# Altium integrated library Motorola Logic Buffer Line Driver.IntLib: 67 symbols (part 2 of 2)
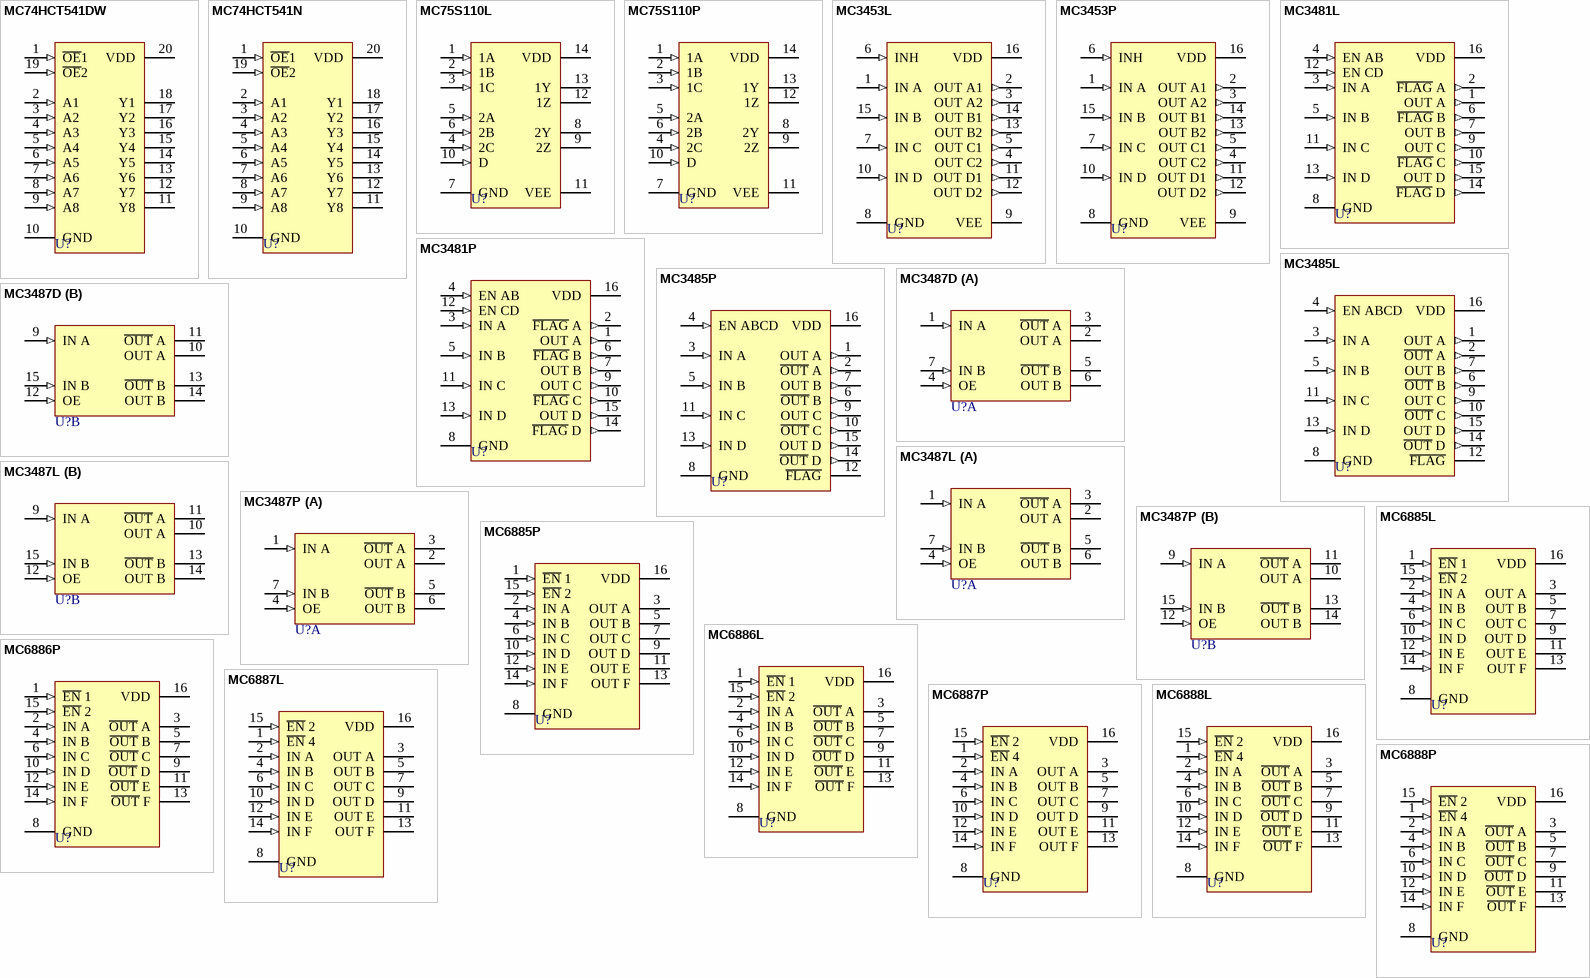
[diagram p3: symbols MC74HCT541DW to MC6888P]

## MC3481L
designator U?
Quad Single-Ended Line Driver; Published: 17-Jul-2002; LatestRevisionDate: 06-Jun-2005; LatestRevisionNote: Stylized 3D Model Added; DatasheetVersion: 1988; PackageReference: 620-10; Publisher: Altium Limited; PackageDescription: DIP; 16 Leads; Row Spacing 7.62 mm; Pitch 2.54 mm; ComponentLink1Description: Manufacturer Link; ComponentLink1URL: http://www.onsemi.com/site/products/parametrics/0,4446,178,00.html
footprint 620-10 (DIP; 16 Leads; Row Spacing 7.62 mm; Pitch 2.54 mm)
3D model 620-10 (DIP; 16 Leads; Row Spacing 7.62 mm; Pitch 2.54 mm)
pins: 1 OUT A (out), 2 ~{FLAG} A (out), 3 IN A (in), 4 EN AB (in), 5 IN B (in), 6 ~{FLAG} B (out), 7 OUT B (out), 8 GND (power), 9 OUT C (out), 10 ~{FLAG} C (out), 11 IN C (in), 12 EN CD (in), 13 IN D (in), 14 ~{FLAG} D (out), 15 OUT D (out), 16 VDD (power)

## MC3481P
designator U?
Quad Single-Ended Line Driver; Published: 17-Jul-2002; LatestRevisionDate: 06-Jun-2005; LatestRevisionNote: Stylized 3D Model Added; DatasheetVersion: 1988; PackageReference: 648-06; Publisher: Altium Limited; PackageDescription: DIP; 16 Leads; Row Spacing 7.62 mm; Pitch 2.54 mm; ComponentLink1Description: Manufacturer Link; ComponentLink1URL: http://www.onsemi.com/site/products/parametrics/0,4446,178,00.html
footprint 648-06 (DIP; 16 Leads; Row Spacing 7.62 mm; Pitch 2.54 mm)
3D model 648-06 (DIP; 16 Leads; Row Spacing 7.62 mm; Pitch 2.54 mm)
pins: 1 OUT A (out), 2 ~{FLAG} A (out), 3 IN A (in), 4 EN AB (in), 5 IN B (in), 6 ~{FLAG} B (out), 7 OUT B (out), 8 GND (power), 9 OUT C (out), 10 ~{FLAG} C (out), 11 IN C (in), 12 EN CD (in), 13 IN D (in), 14 ~{FLAG} D (out), 15 OUT D (out), 16 VDD (power)

## MC3485L
designator U?
Quad Single-Ended Line Driver; Published: 17-Jul-2002; LatestRevisionDate: 06-Jun-2005; LatestRevisionNote: Stylized 3D Model Added; DatasheetVersion: 1988; PackageReference: 620-10; Publisher: Altium Limited; PackageDescription: DIP; 16 Leads; Row Spacing 7.62 mm; Pitch 2.54 mm; ComponentLink1Description: Manufacturer Link; ComponentLink1URL: http://www.onsemi.com/site/products/parametrics/0,4446,178,00.html
footprint 620-10 (DIP; 16 Leads; Row Spacing 7.62 mm; Pitch 2.54 mm)
3D model 620-10 (DIP; 16 Leads; Row Spacing 7.62 mm; Pitch 2.54 mm)
pins: 1 OUT A (out), 2 ~{OUT} A (out), 3 IN A (in), 4 EN ABCD (in), 5 IN B (in), 6 ~{OUT} B (out), 7 OUT B (out), 8 GND (power), 9 OUT C (out), 10 ~{OUT} C (out), 11 IN C (in), 12 ~{FLAG} (oc), 13 IN D (in), 14 ~{OUT} D (out), 15 OUT D (out), 16 VDD (power)

## MC3485P
designator U?
Quad Single-Ended Line Driver; Published: 17-Jul-2002; LatestRevisionDate: 06-Jun-2005; LatestRevisionNote: Stylized 3D Model Added; DatasheetVersion: 1988; PackageReference: 648-06; Publisher: Altium Limited; PackageDescription: DIP; 16 Leads; Row Spacing 7.62 mm; Pitch 2.54 mm; ComponentLink1Description: Manufacturer Link; ComponentLink1URL: http://www.onsemi.com/site/products/parametrics/0,4446,178,00.html
footprint 648-06 (DIP; 16 Leads; Row Spacing 7.62 mm; Pitch 2.54 mm)
3D model 648-06 (DIP; 16 Leads; Row Spacing 7.62 mm; Pitch 2.54 mm)
pins: 1 OUT A (out), 2 ~{OUT} A (out), 3 IN A (in), 4 EN ABCD (in), 5 IN B (in), 6 ~{OUT} B (out), 7 OUT B (out), 8 GND (power), 9 OUT C (out), 10 ~{OUT} C (out), 11 IN C (in), 12 ~{FLAG} (oc), 13 IN D (in), 14 ~{OUT} D (out), 15 OUT D (out), 16 VDD (power)

## MC3487D
designator U?
Quad EIA-422 Line Driver with Three-State Ouputs; Published: 17-Jul-2002; LatestRevisionDate: 13-Apr-2006; LatestRevisionNote: IPC-7351 Footprint Added.; DatasheetVersion: 1988; PackageVersion: 1991; PackageReference: 751B-03; Publisher: Altium Limited; PackageDescription: 16-Pin Small Outline Integrated Circuit 1.27 mm Pitch; Code_JEDEC: MS-012-AC; Code_IPC: SOIC127P600-16; ComponentLink1Description: Manufacturer Link; ComponentLink1URL: http://www.onsemi.com/site/products/parametrics/0,4446,178,00.html
footprint 751B-03_N (SOIC, 16-Leads, Body 9.9x3.9mm, Pitch 1.27mm, IPC Medium Density)
footprint 751B-03_L (SOIC, 16-Leads, Body 9.9x3.9mm, Pitch 1.27mm, IPC High Density)
footprint 751B-03_M (SOIC, 16-Leads, Body 9.9x3.9mm, Pitch 1.27mm, IPC Low Density)
3D model 751B-03 (16-Pin Small Outline Integrated Circuit 1.27 mm Pitch)
pins on every part: 8 GND (power) hidden to GND, 16 VDD (power) hidden to VDD
part A pins: 1 IN A (in), 2 OUT A (hiz), 3 ~{OUT} A (hiz), 4 OE (in), 5 ~{OUT} B (hiz), 6 OUT B (hiz), 7 IN B (in)
part B pins: 9 IN A (in), 10 OUT A (hiz), 11 ~{OUT} A (hiz), 12 OE (in), 13 ~{OUT} B (hiz), 14 OUT B (hiz), 15 IN B (in)

## MC3487L
designator U?
Quad EIA-422 Line Driver with Three-State Ouputs; Published: 17-Jul-2002; LatestRevisionDate: 06-Jun-2005; LatestRevisionNote: Stylized 3D Model Added; DatasheetVersion: 1988; PackageReference: 620-10; Publisher: Altium Limited; PackageDescription: DIP; 16 Leads; Row Spacing 7.62 mm; Pitch 2.54 mm; ComponentLink1Description: Manufacturer Link; ComponentLink1URL: http://www.onsemi.com/site/products/parametrics/0,4446,178,00.html
footprint 620-10 (DIP; 16 Leads; Row Spacing 7.62 mm; Pitch 2.54 mm)
3D model 620-10 (DIP; 16 Leads; Row Spacing 7.62 mm; Pitch 2.54 mm)
pins on every part: 8 GND (power) hidden to GND, 16 VDD (power) hidden to VDD
part A pins: 1 IN A (in), 2 OUT A (hiz), 3 ~{OUT} A (hiz), 4 OE (in), 5 ~{OUT} B (hiz), 6 OUT B (hiz), 7 IN B (in)
part B pins: 9 IN A (in), 10 OUT A (hiz), 11 ~{OUT} A (hiz), 12 OE (in), 13 ~{OUT} B (hiz), 14 OUT B (hiz), 15 IN B (in)

## MC3487P
designator U?
Quad EIA-422 Line Driver with Three-State Ouputs; Published: 17-Jul-2002; LatestRevisionDate: 06-Jun-2005; LatestRevisionNote: Stylized 3D Model Added; DatasheetVersion: 1988; PackageReference: 648-06; Publisher: Altium Limited; PackageDescription: DIP; 16 Leads; Row Spacing 7.62 mm; Pitch 2.54 mm; ComponentLink1Description: Manufacturer Link; ComponentLink1URL: http://www.onsemi.com/site/products/parametrics/0,4446,178,00.html
footprint 648-06 (DIP; 16 Leads; Row Spacing 7.62 mm; Pitch 2.54 mm)
3D model 648-06 (DIP; 16 Leads; Row Spacing 7.62 mm; Pitch 2.54 mm)
pins on every part: 8 GND (power) hidden to GND, 16 VDD (power) hidden to VDD
part A pins: 1 IN A (in), 2 OUT A (hiz), 3 ~{OUT} A (hiz), 4 OE (in), 5 ~{OUT} B (hiz), 6 OUT B (hiz), 7 IN B (in)
part B pins: 9 IN A (in), 10 OUT A (hiz), 11 ~{OUT} A (hiz), 12 OE (in), 13 ~{OUT} B (hiz), 14 OUT B (hiz), 15 IN B (in)

## MC6885L
designator U?
Hex Three-State Buffer/Inverter; Published: 17-Jul-2002; LatestRevisionDate: 06-Jun-2005; LatestRevisionNote: Stylized 3D Model Added; DatasheetVersion: 1988; PackageReference: 620-10; Publisher: Altium Limited; PackageDescription: DIP; 16 Leads; Row Spacing 7.62 mm; Pitch 2.54 mm; ComponentLink1Description: Manufacturer Link; ComponentLink1URL: http://www.onsemi.com/site/products/parametrics/0,4446,178,00.html
footprint 620-10 (DIP; 16 Leads; Row Spacing 7.62 mm; Pitch 2.54 mm)
3D model 620-10 (DIP; 16 Leads; Row Spacing 7.62 mm; Pitch 2.54 mm)
pins: 1 ~{EN} 1 (in), 2 IN A (in), 3 OUT A (hiz), 4 IN B (in), 5 OUT B (hiz), 6 IN C (in), 7 OUT C (hiz), 8 GND (power), 9 OUT D (hiz), 10 IN D (in), 11 OUT E (hiz), 12 IN E (in), 13 OUT F (hiz), 14 IN F (in), 15 ~{EN} 2 (in), 16 VDD (power)

## MC6885P
designator U?
Hex Three-State Buffer/Inverter; Published: 17-Jul-2002; LatestRevisionDate: 06-Jun-2005; LatestRevisionNote: Stylized 3D Model Added; DatasheetVersion: 1988; PackageReference: 648-06; Publisher: Altium Limited; PackageDescription: DIP; 16 Leads; Row Spacing 7.62 mm; Pitch 2.54 mm; ComponentLink1Description: Manufacturer Link; ComponentLink1URL: http://www.onsemi.com/site/products/parametrics/0,4446,178,00.html
footprint 648-06 (DIP; 16 Leads; Row Spacing 7.62 mm; Pitch 2.54 mm)
3D model 648-06 (DIP; 16 Leads; Row Spacing 7.62 mm; Pitch 2.54 mm)
pins: 1 ~{EN} 1 (in), 2 IN A (in), 3 OUT A (hiz), 4 IN B (in), 5 OUT B (hiz), 6 IN C (in), 7 OUT C (hiz), 8 GND (power), 9 OUT D (hiz), 10 IN D (in), 11 OUT E (hiz), 12 IN E (in), 13 OUT F (hiz), 14 IN F (in), 15 ~{EN} 2 (in), 16 VDD (power)

## MC6886L
designator U?
Hex Three-State Buffer/Inverter; Published: 17-Jul-2002; LatestRevisionDate: 06-Jun-2005; LatestRevisionNote: Stylized 3D Model Added; DatasheetVersion: 1988; PackageReference: 620-10; Publisher: Altium Limited; PackageDescription: DIP; 16 Leads; Row Spacing 7.62 mm; Pitch 2.54 mm; ComponentLink1Description: Manufacturer Link; ComponentLink1URL: http://www.onsemi.com/site/products/parametrics/0,4446,178,00.html
footprint 620-10 (DIP; 16 Leads; Row Spacing 7.62 mm; Pitch 2.54 mm)
3D model 620-10 (DIP; 16 Leads; Row Spacing 7.62 mm; Pitch 2.54 mm)
pins: 1 ~{EN} 1 (in), 2 IN A (in), 3 ~{OUT} A (hiz), 4 IN B (in), 5 ~{OUT} B (hiz), 6 IN C (in), 7 ~{OUT} C (hiz), 8 GND (power), 9 ~{OUT} D (hiz), 10 IN D (in), 11 ~{OUT} E (hiz), 12 IN E (in), 13 ~{OUT} F (hiz), 14 IN F (in), 15 ~{EN} 2 (in), 16 VDD (power)

## MC6886P
designator U?
Hex Three-State Buffer/Inverter; Published: 17-Jul-2002; LatestRevisionDate: 06-Jun-2005; LatestRevisionNote: Stylized 3D Model Added; DatasheetVersion: 1988; PackageReference: 648-06; Publisher: Altium Limited; PackageDescription: DIP; 16 Leads; Row Spacing 7.62 mm; Pitch 2.54 mm; ComponentLink1Description: Manufacturer Link; ComponentLink1URL: http://www.onsemi.com/site/products/parametrics/0,4446,178,00.html
footprint 648-06 (DIP; 16 Leads; Row Spacing 7.62 mm; Pitch 2.54 mm)
3D model 648-06 (DIP; 16 Leads; Row Spacing 7.62 mm; Pitch 2.54 mm)
pins: 1 ~{EN} 1 (in), 2 IN A (in), 3 ~{OUT} A (hiz), 4 IN B (in), 5 ~{OUT} B (hiz), 6 IN C (in), 7 ~{OUT} C (hiz), 8 GND (power), 9 ~{OUT} D (hiz), 10 IN D (in), 11 ~{OUT} E (hiz), 12 IN E (in), 13 ~{OUT} F (hiz), 14 IN F (in), 15 ~{EN} 2 (in), 16 VDD (power)

## MC6887L
designator U?
Hex Three-State Buffer/Inverter; Published: 17-Jul-2002; LatestRevisionDate: 06-Jun-2005; LatestRevisionNote: Stylized 3D Model Added; DatasheetVersion: 1988; PackageReference: 620-10; Publisher: Altium Limited; PackageDescription: DIP; 16 Leads; Row Spacing 7.62 mm; Pitch 2.54 mm; ComponentLink1Description: Manufacturer Link; ComponentLink1URL: http://www.onsemi.com/site/products/parametrics/0,4446,178,00.html
footprint 620-10 (DIP; 16 Leads; Row Spacing 7.62 mm; Pitch 2.54 mm)
3D model 620-10 (DIP; 16 Leads; Row Spacing 7.62 mm; Pitch 2.54 mm)
pins: 1 ~{EN} 4 (in), 2 IN A (in), 3 OUT A (hiz), 4 IN B (in), 5 OUT B (hiz), 6 IN C (in), 7 OUT C (hiz), 8 GND (power), 9 OUT D (hiz), 10 IN D (in), 11 OUT E (hiz), 12 IN E (in), 13 OUT F (hiz), 14 IN F (in), 15 ~{EN} 2 (in), 16 VDD (power)

## MC6887P
designator U?
Hex Three-State Buffer/Inverter; Published: 17-Jul-2002; LatestRevisionDate: 06-Jun-2005; LatestRevisionNote: Stylized 3D Model Added; DatasheetVersion: 1988; PackageReference: 648-06; Publisher: Altium Limited; PackageDescription: DIP; 16 Leads; Row Spacing 7.62 mm; Pitch 2.54 mm; ComponentLink1Description: Manufacturer Link; ComponentLink1URL: http://www.onsemi.com/site/products/parametrics/0,4446,178,00.html
footprint 648-06 (DIP; 16 Leads; Row Spacing 7.62 mm; Pitch 2.54 mm)
3D model 648-06 (DIP; 16 Leads; Row Spacing 7.62 mm; Pitch 2.54 mm)
pins: 1 ~{EN} 4 (in), 2 IN A (in), 3 OUT A (hiz), 4 IN B (in), 5 OUT B (hiz), 6 IN C (in), 7 OUT C (hiz), 8 GND (power), 9 OUT D (hiz), 10 IN D (in), 11 OUT E (hiz), 12 IN E (in), 13 OUT F (hiz), 14 IN F (in), 15 ~{EN} 2 (in), 16 VDD (power)

## MC6888L
designator U?
Hex Three-State Buffer/Inverter; Published: 17-Jul-2002; LatestRevisionDate: 06-Jun-2005; LatestRevisionNote: Stylized 3D Model Added; DatasheetVersion: 1988; PackageReference: 620-10; Publisher: Altium Limited; PackageDescription: DIP; 16 Leads; Row Spacing 7.62 mm; Pitch 2.54 mm; ComponentLink1Description: Manufacturer Link; ComponentLink1URL: http://www.onsemi.com/site/products/parametrics/0,4446,178,00.html
footprint 620-10 (DIP; 16 Leads; Row Spacing 7.62 mm; Pitch 2.54 mm)
3D model 620-10 (DIP; 16 Leads; Row Spacing 7.62 mm; Pitch 2.54 mm)
pins: 1 ~{EN} 4 (in), 2 IN A (in), 3 ~{OUT} A (hiz), 4 IN B (in), 5 ~{OUT} B (hiz), 6 IN C (in), 7 ~{OUT} C (hiz), 8 GND (power), 9 ~{OUT} D (hiz), 10 IN D (in), 11 ~{OUT} E (hiz), 12 IN E (in), 13 ~{OUT} F (hiz), 14 IN F (in), 15 ~{EN} 2 (in), 16 VDD (power)

## MC6888P
designator U?
Hex Three-State Buffer/Inverter; Published: 17-Jul-2002; LatestRevisionDate: 06-Jun-2005; LatestRevisionNote: Stylized 3D Model Added; DatasheetVersion: 1988; PackageReference: 648-06; Publisher: Altium Limited; PackageDescription: DIP; 16 Leads; Row Spacing 7.62 mm; Pitch 2.54 mm; ComponentLink1Description: Manufacturer Link; ComponentLink1URL: http://www.onsemi.com/site/products/parametrics/0,4446,178,00.html
footprint 648-06 (DIP; 16 Leads; Row Spacing 7.62 mm; Pitch 2.54 mm)
3D model 648-06 (DIP; 16 Leads; Row Spacing 7.62 mm; Pitch 2.54 mm)
pins: 1 ~{EN} 4 (in), 2 IN A (in), 3 ~{OUT} A (hiz), 4 IN B (in), 5 ~{OUT} B (hiz), 6 IN C (in), 7 ~{OUT} C (hiz), 8 GND (power), 9 ~{OUT} D (hiz), 10 IN D (in), 11 ~{OUT} E (hiz), 12 IN E (in), 13 ~{OUT} F (hiz), 14 IN F (in), 15 ~{EN} 2 (in), 16 VDD (power)